# EAGLE library part CON_MOLEX_MINIFIT_2*3 (library my_con)
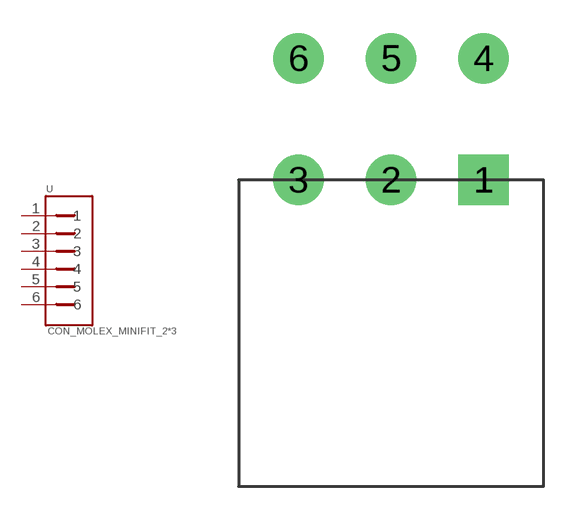
[diagram p1: symbol with the pads of CON_MOLEX_MINIFIT_2*3; footprint CON_MOLEX_MINIFIT_2*3]

Designator prefix -

## CON_MOLEX_MINIFIT_23  [CON_MOLEX_MINIFIT_2*3]
1  1  pas
2  2  pas
3  3  pas
4  4  pas
5  5  pas
6  6  pas

## Footprint CON_MOLEX_MINIFIT_2*3 (pad centres in mm)
drill 1.524 square: 1 4.191,0
drill 1.524: 2 0,0; 3 -4.191,0; 4 4.191,5.512; 5 0,5.512; 6 -4.191,5.512